# Altium footprint library TE_1734753-1.PcbLib: 1 footprints
Each footprint in its own frame and in the unit in brackets; x right, y up, seen from the top. Pads: shape width x height; smd on the part's side, far side on the other; paste and mask are expansions set on the pad; w line width, h text height; cw(c..) or ccw(c..) is an arc to the next point about the centre after c.
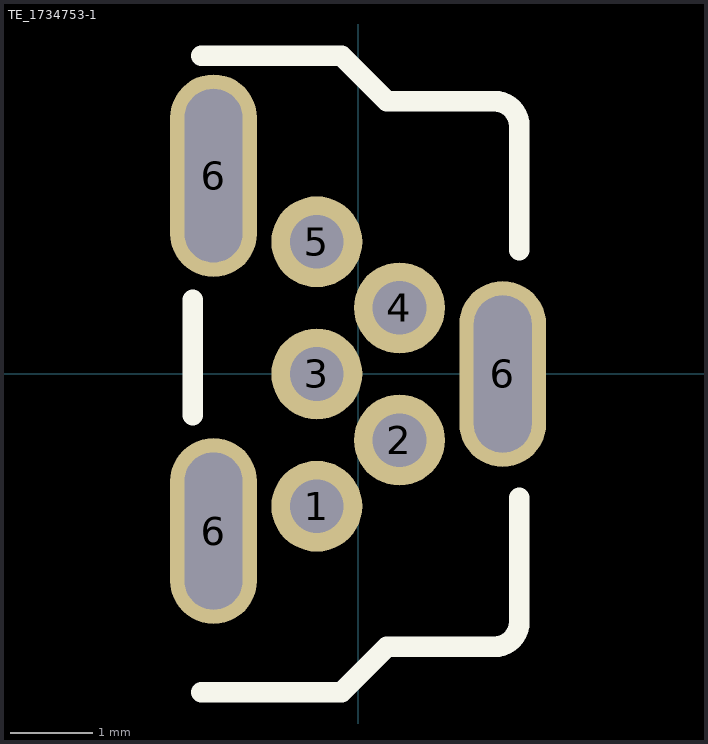
[diagram p0: the footprint, top view; thin cyan lines are the x and y axes]

## TE_1734753-1 [mm]
pads (8):
  round 1.1 hole 0.65 mask+0.05: 1(-0.5,-1.6) 2(0.5,-0.8) 3(-0.5,0) 4(0.5,0.8) 5(-0.5,1.6)
  oval 1.05x2.25 hole 0.7 slot 1.9 at 90 deg mask+0.05: 6(-1.75,-1.9) 6(1.75,0)
  oval 1.05x2.45 hole 0.7 slot 2.1 at 90 deg mask+0.05: 6(-1.75,2.4)
Top Overlay:
  lines w0.25: -2,-0.5 -2,0.9 ; -1.9,-3.85 -0.2,-3.85 0.35,-3.3 1.65,-3.3 ccw(c1.65,-3) 1.95,-3 1.95,-1.5 ; -1.9,3.85 -0.2,3.85 0.35,3.3 1.65,3.3 cw(c1.65,3) 1.95,3 1.95,1.5
3D body "c-1734753-1-a-3d.stp": height 9, standoff -2.3, extent -2.14,-3.85 1.95,3.85